# Altium footprint library FH1240S05SH55.PcbLib: 1 footprints
Each footprint in its own frame and in the unit in brackets; x right, y up, seen from the top. Pads: shape width x height; smd on the part's side, far side on the other; paste and mask are expansions set on the pad; w line width, h text height; cw(c..) or ccw(c..) is an arc to the next point about the centre after c.
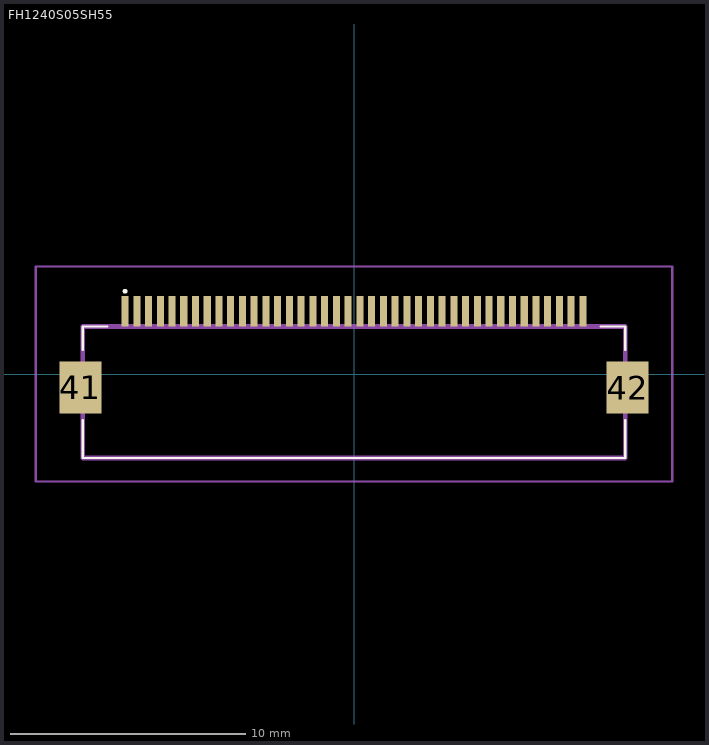
[diagram p0: the footprint, top view; thin cyan lines are the x and y axes]

## FH1240S05SH55 [mm]
pads (42):
  rect 0.3x1.3 smd: 1(-9.75,2.675) 2(-9.25,2.675) 3(-8.75,2.675) 4(-8.25,2.675) 5(-7.75,2.675) 6(-7.25,2.675) 7(-6.75,2.675) 8(-6.25,2.675) 9(-5.75,2.675) 10(-5.25,2.675) 11(-4.75,2.675) 12(-4.25,2.675) 13(-3.75,2.675) 14(-3.25,2.675) 15(-2.75,2.675) 16(-2.25,2.675) 17(-1.75,2.675) 18(-1.25,2.675) 19(-0.75,2.675) 20(-0.25,2.675) 21(0.25,2.675) 22(0.75,2.675) 23(1.25,2.675) 24(1.75,2.675) 25(2.25,2.675) 26(2.75,2.675) 27(3.25,2.675) 28(3.75,2.675) 29(4.25,2.675) 30(4.75,2.675) 31(5.25,2.675) 32(5.75,2.675) 33(6.25,2.675) 34(6.75,2.675) 35(7.25,2.675) 36(7.75,2.675) 37(8.25,2.675) 38(8.75,2.675) 39(9.25,2.675) 40(9.75,2.675)
  rect 1.8x2.2 smd: 41(-11.65,-0.575) 42(11.65,-0.575)
Top Overlay:
  lines w0.1: -11.55,-1.975 -11.55,-3.575 11.55,-3.575 11.55,-1.975 ; -11.55,1.025 -11.55,2.025 -11.5,2.025 -10.5,2.025 ; 10.5,2.025 11.55,2.025 11.55,1.025 ; -9.8,3.525 -9.8,3.525 ; -9.8,3.525 cw(c-9.75,3.525) -9.7,3.525 ; -9.8,3.525 ccw(c-9.75,3.525) -9.7,3.525 ; -9.7,3.525 -9.7,3.525
Mechanical 15:
  lines w0.2: -11.55,-3.575 11.55,-3.575 11.55,2.025 -11.55,2.025 -11.55,-3.575
Mechanical 20:
  lines w0.1: -13.55,-4.575 13.55,-4.575 13.55,4.575 -13.55,4.575 -13.55,-4.575